# Altium footprint library DC_Plug.PcbLib: 1 footprints
Each footprint in its own frame and in the unit in brackets; x right, y up, seen from the top. Pads: shape width x height; smd on the part's side, far side on the other; paste and mask are expansions set on the pad; w line width, h text height; cw(c..) or ccw(c..) is an arc to the next point about the centre after c.
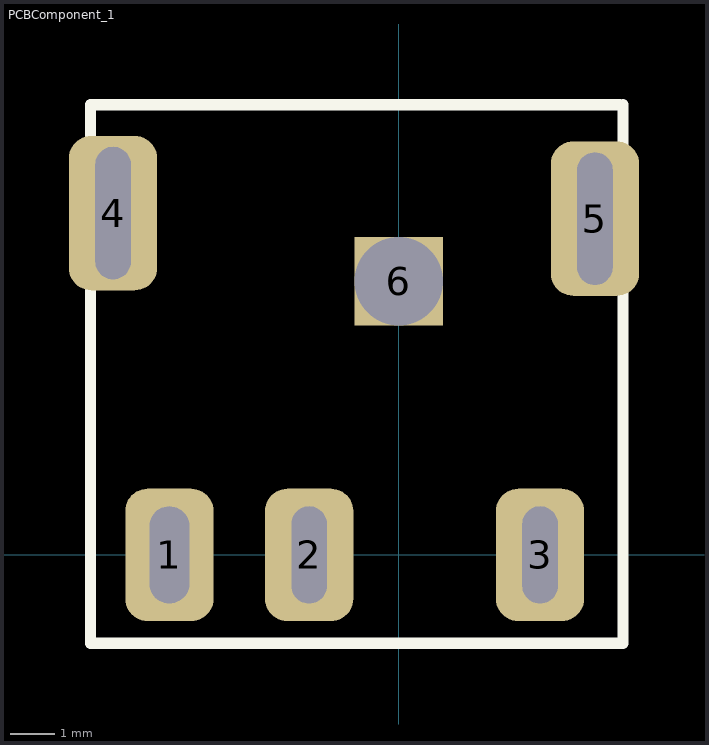
[diagram p0: the footprint, top view; thin cyan lines are the x and y axes]

## PCBComponent_1 [mm]
pads (6):
  rrect50% 2x3 hole 0.9 slot 2.2 at 90 deg unplated: 1(-5.2,0)
  rrect50% 2x3 hole 0.8 slot 2.2 at 90 deg unplated: 2(-2.032,0) 3(3.2,0)
  rrect50% 2x3.5 hole 0.8 slot 3 at 90 deg unplated: 4(-6.477,7.747) 5(4.445,7.62)
  rect 2x2 hole 2 square: 6(0,6.2)
Top Layer:
  pour cut-out: -2.413,8.763
Top Overlay:
  lines w0.254: -6.985,10.16 -6.985,-2 5.08,-2 5.08,10.2 ; -6.985,10.2 5,10.2